# EAGLE library part HEADER5X2 (library Connecteurs_Introlab)
CONNECTOR 10-pin pc board low profile headers.
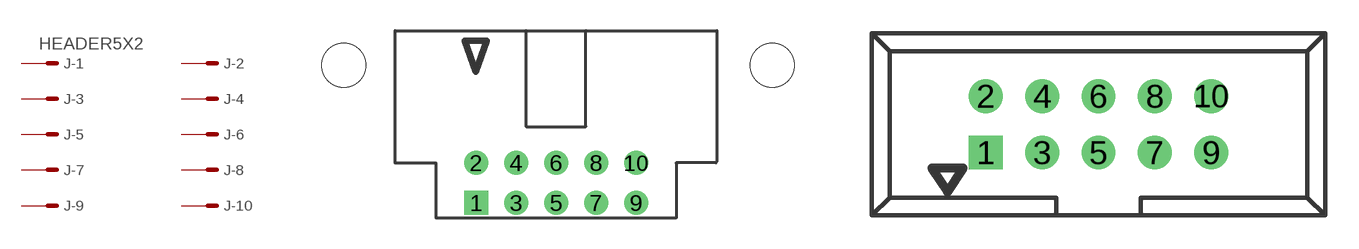
[diagram p0: symbol with the pads of 057-010-0; footprints 057-010-0, 057-010-1]

Designator prefix J; gates -1=MV -2=M -3=M -4=M -5=M -6=M -7=M -8=M -9=M -10=M

## HEADER5X20  [057-010-0]
1  -1:S  pas
2  -2:S  pas
3  -3:S  pas
4  -4:S  pas
5  -5:S  pas
6  -6:S  pas
7  -7:S  pas
8  -8:S  pas
9  -9:S  pas
10  -10:S  pas

## HEADER5X21  [057-010-1]
Pads as for 057-010-0

## HEADER5X2RA  [35-610-0]
Pads as for 057-010-0

## HEADER5X2SMD  [N2510-6V0C]
Pads as for 057-010-0

## Footprint 057-010-0 (pad centres in mm)
Right Angle Shrouded Header series 057 contact pc board low profile headers 0.100 mil spacing, right angle, shrouded.
drill 1.016 square: 1 -5.08,-5.08
drill 1.016: 2 -5.08,-2.54; 3 -2.54,-5.08; 4 -2.54,-2.54; 5 0,-5.08; 6 0,-2.54; 7 2.54,-5.08; 8 2.54,-2.54; 9 5.08,-5.08; 10 5.08,-2.54
hole 2.8 at -13.48,3.66
hole 2.8 at 13.73,3.66

## Footprint 057-010-1 (pad centres in mm)
Shrouded Header series 057 contact pc board low profile headers. Straight. Digikey : MHB10K-ND or A26267-ND or A26268-ND MODE : 35-510-0
drill 1.016 square: 1 -5.08,-1.27
drill 1.016: 2 -5.08,1.27; 3 -2.54,-1.27; 4 -2.54,1.27; 5 0,-1.27; 6 0,1.27; 7 2.54,-1.27; 8 2.54,1.27; 9 5.08,-1.27; 10 5.08,1.27

## Footprint 35-610-0 (pad centres in mm)
Right Angle Shrouder Header 0.100 mil spacing, dual row, 10 positions. MODE Electronics #35-610-0.
drill 1.016 square: 1 -5.08,-1.27
drill 1.016: 2 -5.08,1.27; 3 -2.54,-1.27; 4 -2.54,1.27; 5 0,-1.27; 6 0,1.27; 7 2.54,-1.27; 8 2.54,1.27; 9 5.08,-1.27; 10 5.08,1.27

## Footprint N2510-6V0C (pad centres in mm)
Shrouded Header series 2500 SMD contact low profile headers. From 3M. 3M # N2510-6V0C-RB-WD DigiKey # MSH10KCT-ND.
smd 1.27 x 5.08: 1 -5.08,-3.429; 2 -5.08,3.429; 3 -2.54,-3.429; 4 -2.54,3.429; 5 0,-3.429; 6 0,3.429; 7 2.54,-3.429; 8 2.54,3.429; 9 5.08,-3.429; 10 5.08,3.429